# Altium footprint library SENSORPcbLib.PcbLib: 3 footprints
Each footprint in its own frame and in the unit in brackets; x right, y up, seen from the top. Pads: shape width x height; smd on the part's side, far side on the other; paste and mask are expansions set on the pad; w line width, h text height; cw(c..) or ccw(c..) is an arc to the next point about the centre after c.
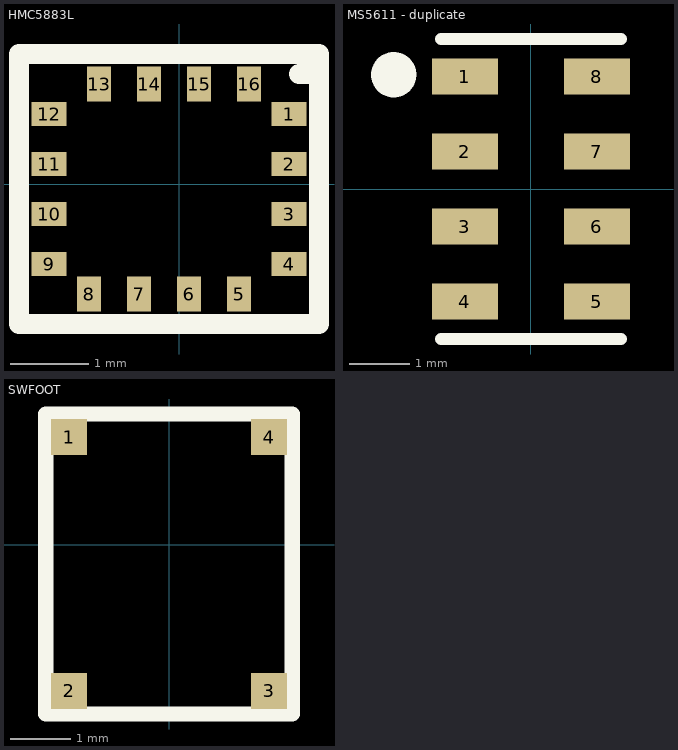
[diagram p0: the footprints below, top view; thin cyan lines are the x and y axes]

## HMC5883L [mm]
pads (16):
  rect 0.45x0.3 smd: 1(1.397,0.889) 2(1.397,0.254) 3(1.397,-0.381) 4(1.397,-1.016) 9(-1.651,-1.016) 10(-1.651,-0.381) 11(-1.651,0.254) 12(-1.651,0.889)
  rect 0.3x0.45 smd: 5(0.762,-1.397) 6(0.127,-1.397) 7(-0.508,-1.397) 8(-1.143,-1.397) 13(-1.016,1.27) 14(-0.381,1.27) 15(0.254,1.27) 16(0.889,1.27)
Top Overlay:
  lines w0.254: -1.651,1.651 1.349,1.651 ; 1.524,1.397 1.778,1.397 ; 1.349,1.651 1.524,1.651 1.778,1.651 1.778,1.397 ; 1.349,1.651 -2.032,1.651 -2.032,1.397 -2.032,-1.603 -2.032,-1.778 -1.857,-1.778 -1.651,-1.778 1.349,-1.778 1.778,-1.778 1.778,-1.603 1.778,1.397

## MS5611 - duplicate [mm]
height 2.44
pads (8):
  rect 1.1x0.6 smd: 1(-1.1,1.875) 2(-1.1,0.625) 3(-1.1,-0.625) 4(-1.1,-1.875) 5(1.1,-1.875) 6(1.1,-0.625) 7(1.1,0.625) 8(1.1,1.875)
Top Overlay:
  circle w0.5: c-2.286,1.905 r0.127
  lines w0.2: -1.5,-2.5 1.5,-2.5 ; -1.5,2.5 1.5,2.5

## SWFOOT [mm]
pads (4):
  rect 0.6x0.6 smd: 1(-1.651,1.778) 2(-1.651,-2.413) 3(1.651,-2.413) 4(1.651,1.778)
Top Overlay:
  lines w0.254: -2.032,-1.905 -2.032,2.159 ; 2.032,-1.905 2.032,2.159 ; -2.032,2.159 2.032,2.159 ; -2.032,2.159 -2.032,-2.794 2.032,-2.794 2.032,2.159